# EAGLE library part 1XRJ45_MM_JACK (library WASP)
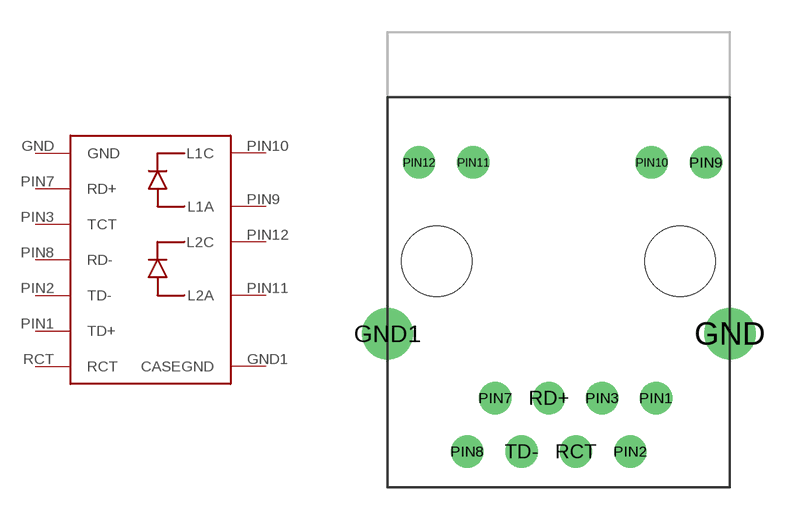
[diagram p3: symbol with the pads of 1XRJ45_MM_JACK; footprint 1XRJ45_MM_JACK]

Designator prefix -

## 1XRJ45_MM_JACK  [1XRJ45_MM_JACK]
GND  GND
GND1  CASEGND
PIN1  TD+
PIN2  TD-
PIN3  TCT
PIN7  RD+
PIN8  RD-
PIN9  L1A
PIN10  L1C
PIN11  L2A
PIN12  L2C
RCT  RCT

## Footprint 1XRJ45_MM_JACK (pad centres in mm)
drill 1.6 round: GND 14.554,-8.004; GND1 -1.446,-8.004
drill 1 round: PIN1 11.099,-11.014; PIN2 9.899,-13.514; PIN3 8.589,-11.014; PIN7 3.589,-11.014; PIN8 2.279,-13.514; PIN9 13.441,-0.001; PIN10 10.901,-0.001; PIN11 2.561,-0.001; PIN12 0.021,-0.001; RCT 7.359,-13.514; RD+ 6.099,-11.014; TD- 4.819,-13.514
hole 3.3 at 12.223,-4.623
hole 3.3 at 0.858,-4.623